# Altium footprint library modules.PcbLib: 5 footprints
Each footprint in its own frame and in the unit in brackets; x right, y up, seen from the top. Pads: shape width x height; smd on the part's side, far side on the other; paste and mask are expansions set on the pad; w line width, h text height; cw(c..) or ccw(c..) is an arc to the next point about the centre after c.
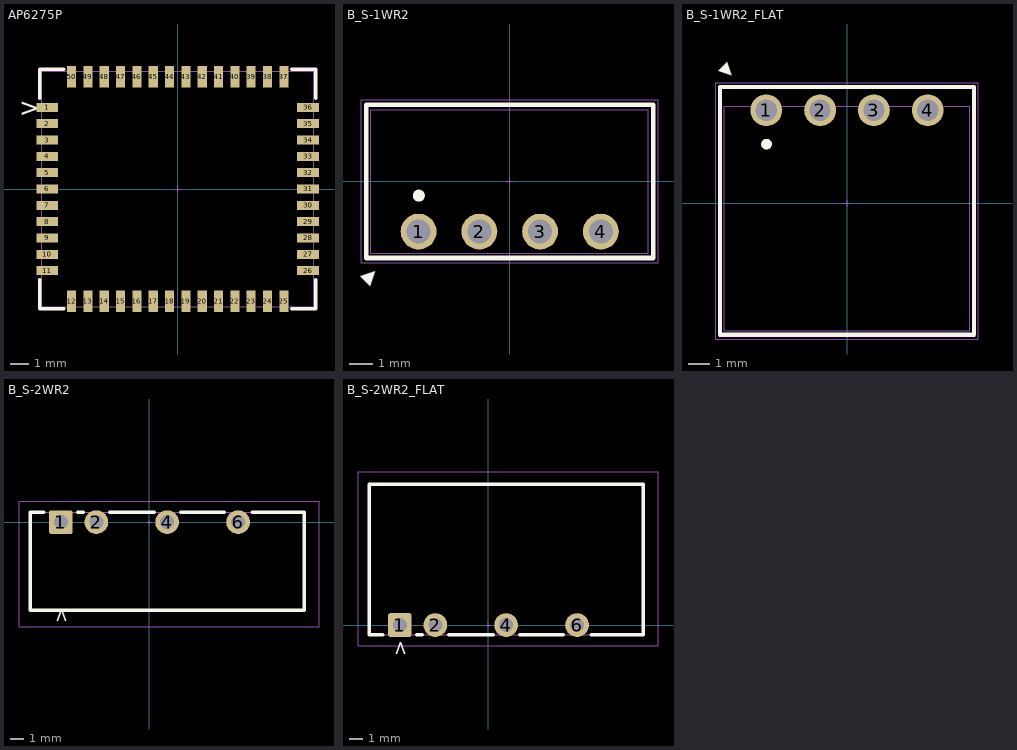
[diagram p0: the footprints below, top view; thin cyan lines are the x and y axes]

## AP6275P [mm]
pads (50):
  rect 1.2x0.5 smd mask+0.05: 1(-7.187,4.5) 2(-7.187,3.6) 3(-7.187,2.7) 4(-7.187,1.8) 5(-7.187,0.9) 6(-7.187,0) 7(-7.187,-0.9) 8(-7.187,-1.8) 9(-7.187,-2.7) 10(-7.187,-3.6) 11(-7.187,-4.5) 26(7.187,-4.5) 27(7.187,-3.6) 28(7.187,-2.7) 29(7.187,-1.8) 30(7.187,-0.9) 31(7.187,0) 32(7.187,0.9) 33(7.187,1.8) 34(7.187,2.7) 35(7.187,3.6) 36(7.187,4.5)
  rect 0.5x1.2 smd mask+0.05: 12(-5.85,-6.188) 13(-4.95,-6.188) 14(-4.05,-6.188) 15(-3.15,-6.188) 16(-2.25,-6.188) 17(-1.35,-6.188) 18(-0.45,-6.188) 19(0.45,-6.188) 20(1.35,-6.188) 21(2.25,-6.188) 22(3.15,-6.188) 23(4.05,-6.188) 24(4.95,-6.188) 25(5.85,-6.188) 37(5.85,6.188) 38(4.95,6.188) 39(4.05,6.188) 40(3.15,6.188) 41(2.25,6.188) 42(1.35,6.188) 43(0.45,6.188) 44(-0.45,6.188) 45(-1.35,6.188) 46(-2.25,6.188) 47(-3.15,6.188) 48(-4.05,6.188) 49(-4.95,6.188) 50(-5.85,6.188)
Top Overlay:
  lines w0.2: -7.6,-5 -7.6,-6.6 -6.3,-6.6 ; -7.6,5.001 -7.6,6.6 -6.3,6.6 ; 6.3,-6.6 7.6,-6.6 7.6,-5 ; 6.3,6.6 7.6,6.6 7.6,5.001
  text ">" at -8.75,4 h1
Top Assembly:
  lines w0.05: -7.5,-6.5 7.5,-6.5 7.5,6.5 -7.5,6.5 -7.5,-6.5
Top Component Center:
  lines w0.05: -0.15,0 0.15,0 ; 0,-0.15 0,0.15
3D body "User Library-AP6398S.STEP": height 1.9, standoff 0.1, extent -7.5,-6.5 7.5,6.5

## B_S-1WR2 [mm]
pads (4):
  round 1.5 hole 1 mask+0.05: 1(-3.81,-2.1) 2(-1.27,-2.1) 3(1.27,-2.1) 4(3.81,-2.1)
Top Overlay:
  circle w0.25: c-3.8,-0.6 r0.125
  lines w0.2: -6,-3.2 -6,3.2 6,3.2 6,-3.2 -6,-3.2
  text "▲" at -6.342,-4.042 h1
Top Assembly:
  lines w0.05: -5.8,-3 5.8,-3 5.8,3 -5.8,3 -5.8,-3
Top Courtyard:
  lines w0.05: -6.2,-3.4 -6.2,3.4 6.2,3.4 6.2,-3.4 -6.2,-3.4
Top Component Center:
  lines w0.05: -0.15,0 0.15,0 ; 0,-0.15 0,0.15
3D body "DC_DC_ISO_B_S_1W.stp": height 4.1, standoff -10, extent -5.8,-3 5.8,3

## B_S-1WR2_FLAT [mm]
pads (4):
  round 1.5 hole 1 mask+0.05: 1(-3.81,4.4) 2(-1.27,4.4) 3(1.27,4.4) 4(3.81,4.4)
Top Overlay:
  circle w0.25: c-3.8,2.8 r0.125
  lines w0.2: -6,-6.2 6,-6.2 6,5.5 -6,5.5 -6,-6.2
  text "▲" at -5.721,6.763 h1
Top Assembly:
  lines w0.05: -5.8,-6 5.8,-6 5.8,4.6 -5.8,4.6 -5.8,-6
Top Courtyard:
  lines w0.05: -6.2,-6.4 6.2,-6.4 6.2,5.7 -6.2,5.7 -6.2,-6.4
Top Component Center:
  lines w0.05: -0.15,0 0.15,0 ; 0,-0.15 0,0.15
3D body "BxxxxS-01_Angle.step": height 6, standoff -1.93, extent -5.8,-6.019 5.8,4.6

## B_S-2WR2 [mm]
pads (4):
  rrect20% 1.7x1.7 hole 1 mask+0.05: 1(-6.35,0)
  round 1.7 hole 1 mask+0.05: 2(-3.81,0) 4(1.27,0) 6(6.35,0)
Top Overlay:
  lines w0.254: -7.581,0.7 -8.56,0.7 -8.56,-6.3 11.1,-6.3 11.1,0.7 7.35,0.7 ; -5.123,0.7 -4.75,0.7 ; -2.85,0.7 0.35,0.7 ; 2.25,0.7 5.35,0.7
  text ">" at -5.85,-7.25 h1
Top Assembly:
  lines w0.05: -8.55,-6.3 11.1,-6.3 11.1,0.7 -8.55,0.7 -8.55,-6.3
Top Courtyard:
  lines w0.05: -9.35,-7.5 12.15,-7.5 12.15,1.5 -9.35,1.5 -9.35,-7.5
Top Component Center:
  lines w0.05: -0.15,0 0.15,0 ; 0,-0.15 0,0.15
3D body "B0505S-2W.stp": height 10.1, standoff -4.1, extent -8.53,-6.3 11.07,0.7

## B_S-2WR2_FLAT [mm]
pads (4):
  rrect20% 1.7x1.7 hole 1 mask+0.05: 1(-6.35,0)
  round 1.7 hole 1 mask+0.05: 2(-3.81,0) 4(1.27,0) 6(6.35,0)
Top Overlay:
  lines w0.254: -7.581,-0.7 -8.56,-0.7 -8.56,10.1 11.1,10.1 11.1,-0.7 7.35,-0.7 ; -5.123,-0.7 -4.75,-0.7 ; -2.85,-0.7 0.35,-0.7 ; 2.25,-0.7 5.35,-0.7
  text ">" at -5.85,-2.25 h1
Top Assembly:
  lines w0.05: -8.55,-0.7 -8.55,10.1 11.1,10.1 11.1,-0.7 -8.55,-0.7
Top Courtyard:
  lines w0.05: -9.35,-1.5 12.15,-1.5 12.15,11 -9.35,11 -9.35,-1.5
Top Component Center:
  lines w0.05: -0.15,0 0.15,0 ; 0,-0.15 0,0.15
3D body "B0505S-2W.stp": height 7.1, standoff 0.1, extent -8.53,-4.1 11.07,10.1